# EAGLE library part SPBT2632C2A.AT2 (library 0-micromouse2019)
Bluetooth V3.0 module class 2 with antenna, supporting SPP and iAP with AT2 command set
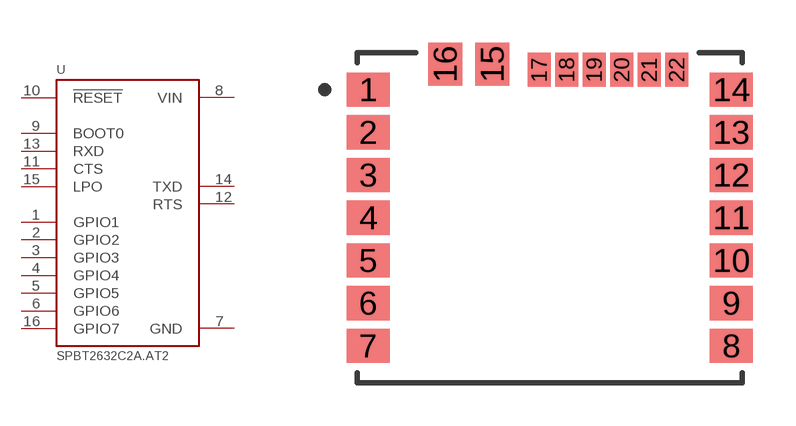
[diagram p7: symbol with the pads of XCVR_SPBT2632C2A.AT2; footprint XCVR_SPBT2632C2A.AT2]

Designator prefix U

## SPBT2632C2A.AT2 (AVAILABILITY: Unavailable; DESCRIPTION: Bluetooth V3.0 module class 2 with antenna, supporting SPP and iAP with AT2 command set; MF: STMicroelectronics; MP: SPBT2632C2A.AT2; PACKAGE: Module STMicroelectronics; PRICE: None)  [XCVR_SPBT2632C2A.AT2]
1  GPIO1
2  GPIO2
3  GPIO3
4  GPIO4
5  GPIO5
6  GPIO6
7  GND  pwr
8  VIN  pwr
9  BOOT0  in
10  !RESET  in
11  CTS  in
12  RTS  out
13  RXD  in
14  TXD  out
15  LPO  in
16  GPIO7

## Footprint XCVR_SPBT2632C2A.AT2 (pad centres in mm)
smd 1.5 x 1.2: 1 -6.37,4.5; 2 -6.37,3; 3 -6.37,1.5; 4 -6.37,0; 5 -6.37,-1.5; 6 -6.37,-3; 7 -6.37,-4.5; 8 6.37,-4.5; 9 6.37,-3; 10 6.37,-1.5; 11 6.37,0; 12 6.37,1.5; 13 6.37,3; 14 6.37,4.5
smd 1.2 x 1.5: 15 -2.02,5.4; 16 -3.67,5.4
smd 0.8 x 1.2: 17 -0.37,5.2; 18 0.595,5.2; 19 1.56,5.2; 20 2.525,5.2; 21 3.49,5.2; 22 4.455,5.2